# EAGLE library part ES_DAISY_SEED2_DFM_REV1 (library Electrosmith-Boards)
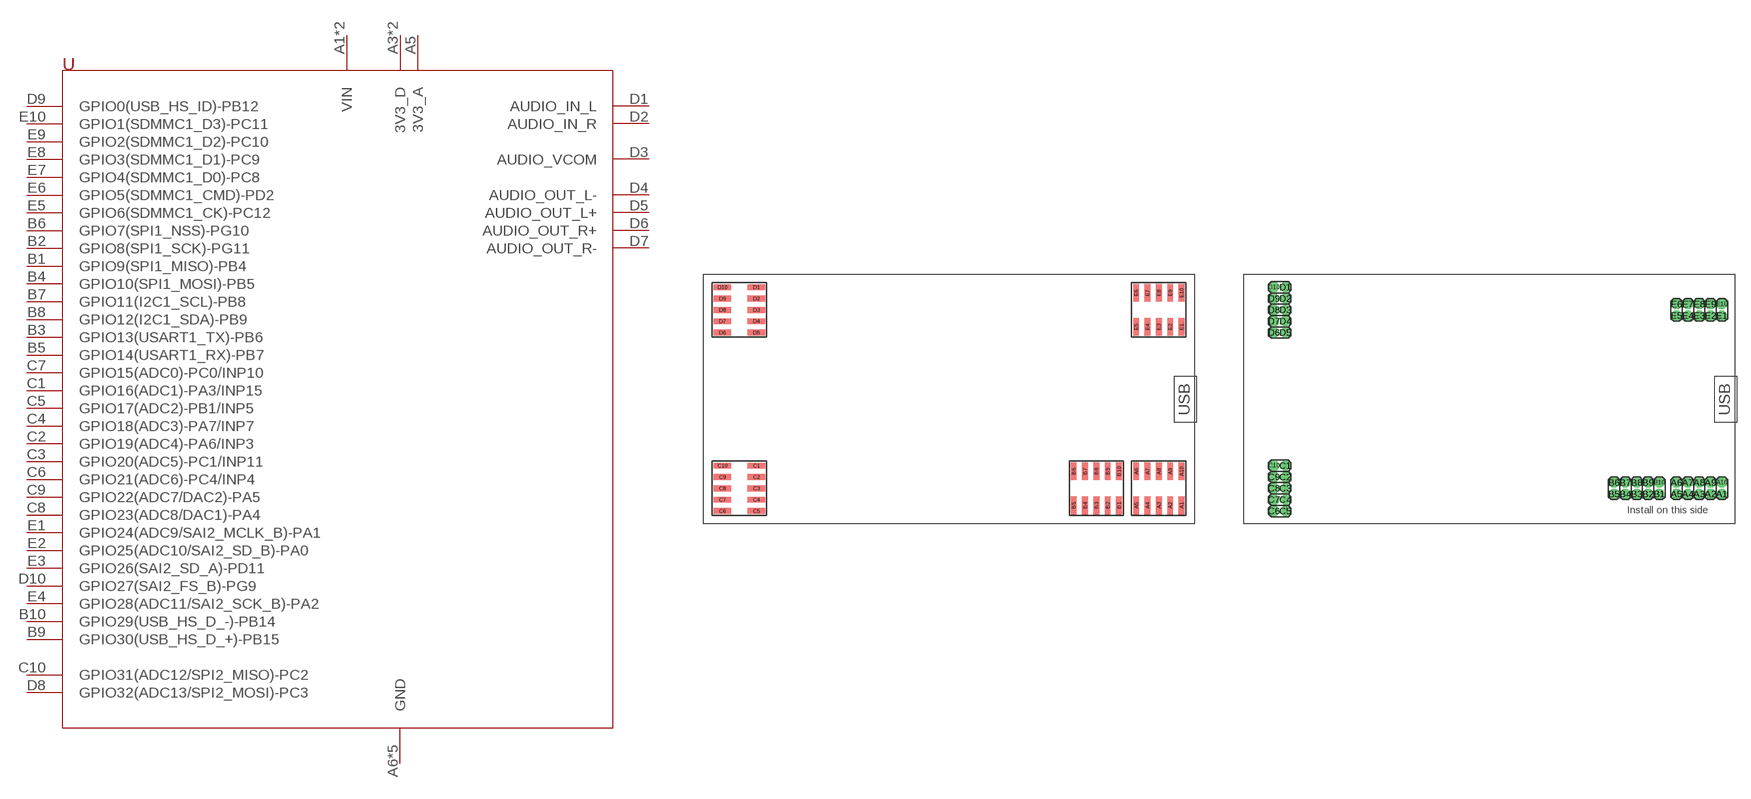
[diagram p23: symbol with the pads of ES_DAISY_SEED2_DFM_REV1; footprints ES_DAISY_SEED2_DFM_REV1, ES_DAISY_SEED2_DFM_REV1_PTH]

Designator prefix U

## ES_DAISY_SEED2_DFM_REV1""  [ES_DAISY_SEED2_DFM_REV1]
A1  VIN
A2  VIN
A3  3V3_D
A4  3V3_D
A5  3V3_A
A6  GND
A7  GND
A8  GND
A9  GND
A10  GND
B1  GPIO9(SPI1_MISO)-PB4
B2  GPIO8(SPI1_SCK)-PG11
B3  GPIO13(USART1_TX)-PB6
B4  GPIO10(SPI1_MOSI)-PB5
B5  GPIO14(USART1_RX)-PB7
B6  GPIO7(SPI1_NSS)-PG10
B7  GPIO11(I2C1_SCL)-PB8
B8  GPIO12(I2C1_SDA)-PB9
B9  GPIO30(USB_HS_D_+)-PB15
B10  GPIO29(USB_HS_D_-)-PB14
C1  GPIO16(ADC1)-PA3/INP15
C2  GPIO19(ADC4)-PA6/INP3
C3  GPIO20(ADC5)-PC1/INP11
C4  GPIO18(ADC3)-PA7/INP7
C5  GPIO17(ADC2)-PB1/INP5
C6  GPIO21(ADC6)-PC4/INP4
C7  GPIO15(ADC0)-PC0/INP10
C8  GPIO23(ADC8/DAC1)-PA4
C9  GPIO22(ADC7/DAC2)-PA5
C10  GPIO31(ADC12/SPI2_MISO)-PC2
D1  AUDIO_IN_L
D2  AUDIO_IN_R
D3  AUDIO_VCOM
D4  AUDIO_OUT_L-
D5  AUDIO_OUT_L+
D6  AUDIO_OUT_R+
D7  AUDIO_OUT_R-
D8  GPIO32(ADC13/SPI2_MOSI)-PC3
D9  GPIO0(USB_HS_ID)-PB12
D10  GPIO27(SAI2_FS_B)-PG9
E1  GPIO24(ADC9/SAI2_MCLK_B)-PA1
E2  GPIO25(ADC10/SAI2_SD_B)-PA0
E3  GPIO26(SAI2_SD_A)-PD11
E4  GPIO28(ADC11/SAI2_SCK_B)-PA2
E5  GPIO6(SDMMC1_CK)-PC12
E6  GPIO5(SDMMC1_CMD)-PD2
E7  GPIO4(SDMMC1_D0)-PC8
E8  GPIO3(SDMMC1_D1)-PC9
E9  GPIO2(SDMMC1_D2)-PC10
E10  GPIO1(SDMMC1_D3)-PC11

## ES_DAISY_SEED2_DFM_REV1_PTH  [ES_DAISY_SEED2_DFM_REV1_PTH]
Pads as for ES_DAISY_SEED2_DFM_REV1

## ES_DAISY_SEED2_DFM_REV1_PTH_LOCK  [ES_DAISY_SEED2_DFM_REV1_PTH_LOCK]
Pads as for ES_DAISY_SEED2_DFM_REV1

## Footprint ES_DAISY_SEED2_DFM_REV1 (pad centres in mm)
smd 0.65 x 1.98: A1 53.54,2.095; A2 52.27,2.095; A3 51,2.095; A4 49.73,2.095; A5 48.46,2.095; A6 48.46,5.905; A7 49.73,5.905; A8 51,5.905; A9 52.27,5.905; A10 53.54,5.905; B1 46.54,2.095; B2 45.27,2.095; B3 44,2.095; B4 42.73,2.095; B5 41.46,2.095; B6 41.46,5.905; B7 42.73,5.905; B8 44,5.905; B9 45.27,5.905; B10 46.54,5.905; E1 53.54,22.095; E2 52.27,22.095; E3 51,22.095; E4 49.73,22.095; E5 48.46,22.095; E6 48.46,25.905; E7 49.73,25.905; E8 51,25.905; E9 52.27,25.905; E10 53.54,25.905
smd 1.98 x 0.65: C1 5.905,6.54; C2 5.905,5.27; C3 5.905,4; C4 5.905,2.73; C5 5.905,1.46; C6 2.095,1.46; C7 2.095,2.73; C8 2.095,4; C9 2.095,5.27; C10 2.095,6.54; D1 5.905,26.54; D2 5.905,25.27; D3 5.905,24; D4 5.905,22.73; D5 5.905,21.46; D6 2.095,21.46; D7 2.095,22.73; D8 2.095,24; D9 2.095,25.27; D10 2.095,26.54

## Footprint ES_DAISY_SEED2_DFM_REV1_PTH (pad centres in mm)
drill 0.61 pad 1.067 octagon: A1 53.54,3.365; A2 52.27,3.365; A3 51,3.365; A4 49.73,3.365; A5 48.46,3.365; A6 48.46,4.635; A7 49.73,4.635; A8 51,4.635; A9 52.27,4.635; A10 53.54,4.635; B1 46.54,3.365; B2 45.27,3.365; B3 44,3.365; B4 42.73,3.365; B5 41.46,3.365; B6 41.46,4.635; B7 42.73,4.635; B8 44,4.635; B9 45.27,4.635; B10 46.54,4.635; C1 4.635,6.54; C2 4.635,5.27; C3 4.635,4; C4 4.635,2.73; C5 4.635,1.46; C6 3.365,1.46; C7 3.365,2.73; C8 3.365,4; C9 3.365,5.27; C10 3.365,6.54; D1 4.635,26.54; D2 4.635,25.27; D3 4.635,24; D4 4.635,22.73; D5 4.635,21.46; D6 3.365,21.46; D7 3.365,22.73; D8 3.365,24; D9 3.365,25.27; D10 3.365,26.54; E1 53.54,23.365; E2 52.27,23.365; E3 51,23.365; E4 49.73,23.365; E5 48.46,23.365; E6 48.46,24.635; E7 49.73,24.635; E8 51,24.635; E9 52.27,24.635; E10 53.54,24.635

## Footprint ES_DAISY_SEED2_DFM_REV1_PTH_LOCK (pad centres in mm)
drill 0.61 pad 1.067 octagon: A1 53.54,3.465; A2 52.27,3.265; A3 51,3.465; A4 49.73,3.265; A5 48.46,3.465; A6 48.46,4.735; A7 49.73,4.535; A8 51,4.735; A9 52.27,4.535; A10 53.54,4.735; B1 46.54,3.465; B2 45.27,3.265; B3 44,3.465; B4 42.73,3.265; B5 41.46,3.465; B6 41.46,4.735; B7 42.73,4.535; B8 44,4.735; B9 45.27,4.535; B10 46.54,4.735; C1 4.535,6.54; C2 4.735,5.27; C3 4.535,4; C4 4.735,2.73; C5 4.535,1.46; C6 3.265,1.46; C7 3.465,2.73; C8 3.265,4; C9 3.465,5.27; C10 3.265,6.54; D1 4.535,26.54; D2 4.735,25.27; D3 4.535,24; D4 4.735,22.73; D5 4.535,21.46; D6 3.265,21.46; D7 3.465,22.73; D8 3.265,24; D9 3.465,25.27; D10 3.265,26.54; E1 53.54,23.465; E2 52.27,23.265; E3 51,23.465; E4 49.73,23.265; E5 48.46,23.465; E6 48.46,24.735; E7 49.73,24.535; E8 51,24.735; E9 52.27,24.535; E10 53.54,24.735